# Altium integrated library CONMHF1-SMD-T.IntLib: 1 symbol
Pins are listed as number, name and electrical type; pins without a type are passive.

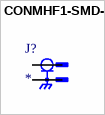
[diagram p0: symbol CONMHF1-SMD-T]

## CONMHF1-SMD-T
designator J?
MP: CONMHF1-SMD-T; Package: None; Price: None; Value: *; Availability: Unavailable
footprint TE_CONMHF1-SMD-T
pins: 1 SIG, 2 GND (power), 3 GND (power), 4 GND (power)